# EAGLE library part TPS62065 (library ICs)
DC-DC Switching Buck Step Down Regulator, Adjustable, 2.9V-6Vin, 800mV-6Vout, 2Aout, WSON-8
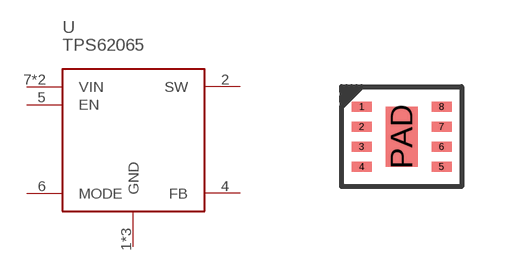
[diagram p91: symbol with the pads of WSON8; footprint WSON8]

Designator prefix U

## TPS62065DSGR (DIGIKEY: 296-39441-1-ND; HEIGHT: 1; PRICE_PER: 1.60; VALUE: TPS62065)  [WSON8]
1  GND
2  SW
3  GND
4  FB
5  EN
6  MODE
7  VIN
8  VIN
PAD  GND

## Footprint WSON8 (pad centres in mm)
smd 0.5 x 0.25: 1 -1,0.75; 2 -1,0.25; 3 -1,-0.25; 4 -1,-0.75; 5 1,-0.75; 6 1,-0.25; 7 1,0.25; 8 1,0.75
smd 0.8 x 1.5: PAD 0,0